# EAGLE library part IMCV10 (library con-phoenix-381)
Invertierter Mini-Combicon 3.81mm vertikal 10-polig IMCV 1,5/10-G-3,81 (ohne Gegenstecker)
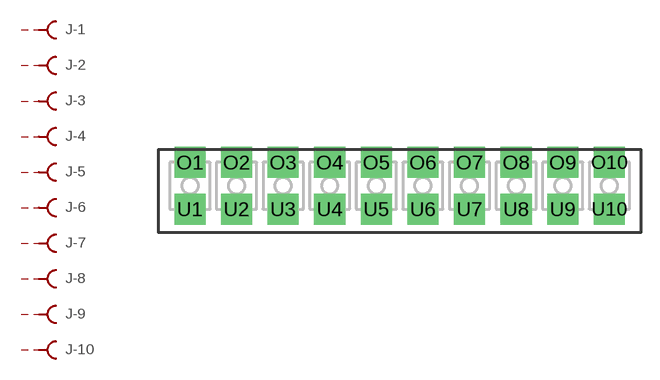
[diagram p29: symbol with the pads of IMCV10; footprint IMCV10]

Designator prefix J; gates -5=MCBU -4=MCBU -3=MCBU -2=MCBU -1=MCBU -6=MCBU -7=MCBU -8=MCBU -9=MCBU -10=MCBU

## IMCV10  [IMCV10]
O1  -1:S  pas
O2  -2:S  pas
O3  -3:S  pas
O4  -4:S  pas
O5  -5:S  pas
O6  -6:S  pas
O7  -7:S  pas
O8  -8:S  pas
O9  -9:S  pas
O10  -10:S  pas
U1  -1:SK  pas
U2  -2:SK  pas
U3  -3:SK  pas
U4  -4:SK  pas
U5  -5:SK  pas
U6  -6:SK  pas
U7  -7:SK  pas
U8  -8:SK  pas
U9  -9:SK  pas
U10  -10:SK  pas

## Footprint IMCV10 (pad centres in mm)
Mini-Combicon 3.81mm vertical 10-polig invertiert IMCV 1,5/10-G-3,81 Artikel-Nr. 1875506
drill 1.27 pad 2.54 square: O1 -17.145,1.905; O2 -13.335,1.905; O3 -9.525,1.905; O4 -5.715,1.905; O5 -1.905,1.905; O6 1.905,1.905; O7 5.715,1.905; O8 9.525,1.905; O9 13.335,1.905; O10 17.145,1.905; U1 -17.145,-1.905; U2 -13.335,-1.905; U3 -9.525,-1.905; U4 -5.715,-1.905; U5 -1.905,-1.905; U6 1.905,-1.905; U7 5.715,-1.905; U8 9.525,-1.905; U9 13.335,-1.905; U10 17.145,-1.905